# EAGLE library part 20021121-00010C4LF (library logicdesign)
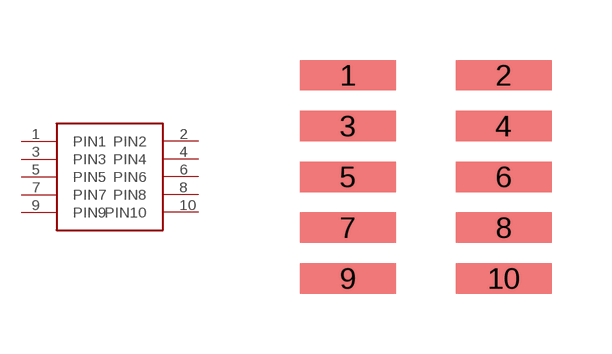
[diagram p0: symbol with the pads of 20021121-00010C4LF; footprint 20021121-00010C4LF]

Designator prefix -

## 20021121-00010C4LF  [20021121-00010C4LF]
1  PIN1
2  PIN2
3  PIN3
4  PIN4
5  PIN5
6  PIN6
7  PIN7
8  PIN8
9  PIN9
10  PIN10

## Footprint 20021121-00010C4LF (pad centres in mm)
smd 2.4 x 0.76: 1 -1.95,2.54; 2 1.95,2.54; 3 -1.95,1.27; 4 1.95,1.27; 5 -1.95,0; 6 1.95,0; 7 -1.95,-1.27; 8 1.95,-1.27; 9 -1.95,-2.54; 10 1.95,-2.54